# Altium footprint library NEW.PcbLib: 110 footprints (part 2 of 7)
Each footprint in its own frame and in the unit in brackets; x right, y up, seen from the top. Pads: shape width x height; smd on the part's side, far side on the other; paste and mask are expansions set on the pad; w line width, h text height; cw(c..) or ccw(c..) is an arc to the next point about the centre after c.
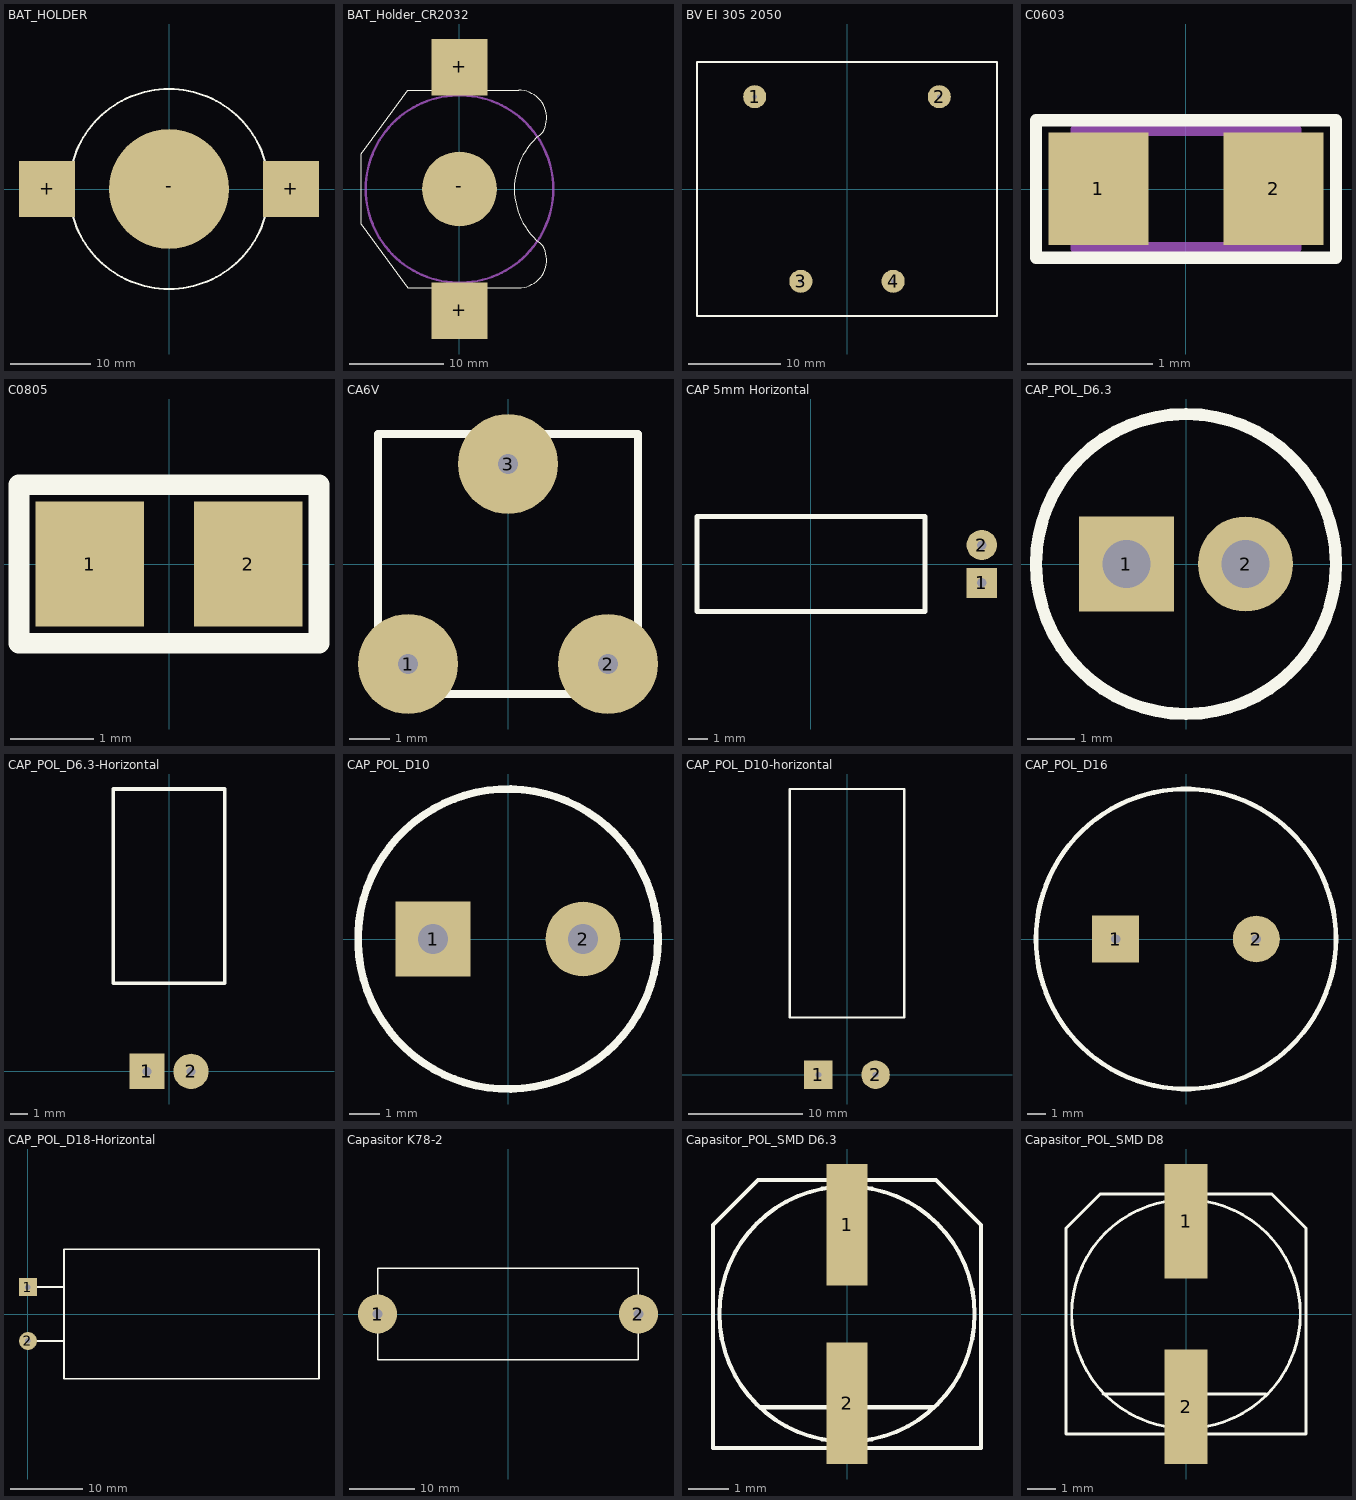
[diagram p1: the footprints below, top view; thin cyan lines are the x and y axes]

## BAT_HOLDER [mm] "KEYS3006"
height 4
pads (3):
  rect 7x7 smd: +(-15.25,0) +(15.25,0)
  round 15 smd: -(0,0)
Top Overlay:
  circle w0.254: c0,0 r12.5

## BAT_Holder_CR2032 [mm] "BTH-W39-20"
height 3.8
pads (3):
  rect 6x6 smd: +(0,-13) +(0,13)
  round 8 smd: -(0,0)
Top Overlay:
  lines w0.1: 8.898,-6.05 cw(c6.3,-7.55) 6.3,-10.55 -5.5,-10.55 -10.5,-3.75 -10.5,3.75 -5.5,10.55 6.3,10.55 cw(c6.3,7.55) 8.898,6.05 ; 8.905,-6.041 cw(c13.35,0) 8.905,6.041
Mechanical 13:
  circle w0.254: c0,0 r10

## BV EI 305 2050 [mm]
height 30
pads (4):
  round 2.5 hole 0.5 unplated: 1(-10,10) 2(10,10) 3(-5,-10) 4(5,-10)
Top Overlay:
  lines w0.2: -16.25,-13.75 16.25,-13.75 16.25,13.75 -16.25,13.75 -16.25,-13.75
3D body: height 29.5, standoff 0, extent -16.25,-13.75 16.25,13.75

## C0603 [mm]
height 0.45
pads (2):
  rect 0.8x0.9 smd: 1(-0.7,0) 2(0.7,0)
Top Overlay:
  lines w0.1: -1.2,-0.55 1.2,-0.55 1.2,0.55 -1.2,0.55 -1.2,-0.55
Mechanical 13:
  lines w0.1: -0.875,-0.475 -0.875,0.475 0.875,0.475 0.875,-0.475 -0.875,-0.475
3D body: height 1.3, standoff 0, extent -0.875,-0.475 0.875,0.475

## C0805 [mm]
pads (2):
  rect 1.3x1.5 smd: 1(-0.95,0) 2(0.95,0)
Top Overlay:
  lines w0.25: -1.8,-0.95 1.8,-0.95 1.8,0.95 -1.8,0.95 -1.8,-0.95

## CA6V [mm]
height 3.6
pads (3):
  round 2.5 hole 0.5 unplated: 1(-2.5,-2.5) 2(2.5,-2.5) 3(0,2.5)
Top Overlay:
  lines w0.2: -3.25,-3.25 3.25,-3.25 3.25,3.25 -3.25,3.25 -3.25,-3.25

## CAP 5mm Horizontal [mm]
height 5
pads (2):
  rect 1.6x1.6 hole 0.5: 1(9,-1)
  round 1.6 hole 0.5: 2(9,1)
Top Overlay:
  lines w0.254: -6,-2.5 -6,2.5 6,2.5 6,-2.5 -6,-2.5

## CAP_POL_D6.3 [mm]
height 11
pads (2):
  rect 2x2 hole 1: 1(-1.25,0)
  round 2 hole 1: 2(1.25,0)
Top Overlay:
  circle w0.254: c0,0 r3.15
3D body: height 11, standoff 0, extent -3.125,-3.144 3.15,3.144

## CAP_POL_D6.3-Horizontal [mm]
height 7
pads (2):
  rect 2x2 hole 0.5 unplated: 1(-1.25,0)
  round 2 hole 0.5 unplated: 2(1.25,0)
Top Overlay:
  lines w0.2: -3.15,5 -3.15,16 3.15,16 3.15,5 -3.15,5

## CAP_POL_D10 [mm]
height 20
pads (2):
  rect 2.5x2.5 hole 1: 1(-2.5,0)
  round 2.5 hole 1: 2(2.5,0)
Top Overlay:
  circle w0.254: c0,0 r5
3D body: height 20, standoff 0, extent -4.961,-4.99 5,4.99

## CAP_POL_D10-horizontal [mm]
pads (2):
  rect 2.5x2.5 hole 0.5 unplated: 1(-2.5,0)
  round 2.5 hole 0.5 unplated: 2(2.5,0)
Top Overlay:
  lines w0.2: -5,5 -5,25 5,25 5,5 -5,5

## CAP_POL_D16 [mm]
height 31.5
pads (2):
  rect 2.5x2.5 hole 0.5 unplated: 1(-3.75,0)
  round 2.5 hole 0.5 unplated: 2(3.75,0)
Top Overlay:
  circle w0.254: c0,0 r8
3D body: height 31.5, standoff 0, extent -7.937,-7.984 8,7.984

## CAP_POL_D18-Horizontal [mm]
height 18
pads (2):
  rect 2.5x2.5 hole 0.762: 1(0,3.75)
  round 2.5 hole 0.762: 2(0,-3.75)
Top Overlay:
  lines w0.254: 0,-3.75 4.95,-3.75 5,-3.8 ; 0,3.75 4.95,3.75 ; 5,-9 40.5,-9 40.5,9 5,9 5,-9

## Capasitor K78-2 [mm]
height 30
pads (2):
  round 6 hole 1.5: 1(-20,0) 2(20,0)
Top Overlay:
  lines w0.2: -20,-7 -20,7 20,7 20,-7 -20,-7

## Capasitor_POL_SMD D6.3 [mm]
height 7.7
pads (2):
  rect 1x3 smd: 1(0,2.2) 2(0,-2.2)
Top Overlay:
  circle w0.1: c0,0 r3.15
  lines w0.1: -2.1,-2.3 2.1,-2.3 ; 2.1,3.3 2.2,3.3 ; -3.3,2.2 -2.2,3.3 ; -3.3,2.2 -2.2,3.3 ; -3.3,2.2 -3.3,-3.3 3.3,-3.3 3.3,2.2 ; -2.2,3.3 2.2,3.3 ; 2.2,3.3 3.3,2.2 ; 2.2,3.3 3.3,2.2

## Capasitor_POL_SMD D8 [mm]
height 10.5
pads (2):
  rect 1.5x4 smd: 1(0,3.25) 2(0,-3.25)
Top Overlay:
  circle w0.1: c0,0 r4
  lines w0.1: -2.9,-2.8 2.8,-2.8 ; -4.2,3 -3,4.2 ; -4.2,3 -3,4.2 ; -4.2,3 -4.2,-4.2 4.2,-4.2 4.2,3 ; -3,4.2 3,4.2 ; 3,4.2 4.2,3 ; 3,4.2 4.2,3